# Altium schematic symbol library ADXL335.SchLib: 1 symbol
Pins are listed as number, name and electrical type; pins without a type are passive.

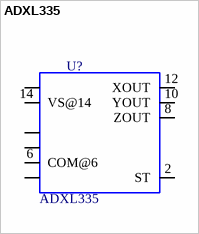
[diagram p0: symbol ADXL335]

## ADXL335
designator U?
AcelerÃ³metro X, Y, Eje Z Â± 3g 1.6kHz _X, Y_, 550Hz _Z_ 16-LFCSP-LQ _4x4_; MF: Analog Devices; Price: None; SnapEDA_Link: https://www.snapeda.com/parts/ADXL335/Analog%20Devices%20Inc./view-part/3215445/?ref=snap; Availability: Unavailable; Package: LFCSP-16 Analog Devices; MP: ADXL335; Value: *
footprint *LFCSP-16
pins: 2 ST (io), 3 COM@3 (io), 5 COM@5 (io), 6 COM@6 (io), 7 COM@7 (io), 8 ZOUT (io), 10 YOUT (io), 12 XOUT (io), 14 VS@14 (io), 15 VS@15 (io)